# Altium schematic symbol library AltiumDesigner.SchLib: 2 symbols
Pins are listed as number, name and electrical type; pins without a type are passive.

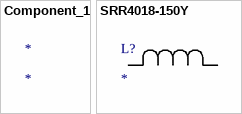
[diagram p0: symbols Component_1 to SRR4018-150Y]

## Component_1
designator *

## SRR4018-150Y
designator L?
Imported; Manufacturer_Part_Number: SRR4018-150Y; Vendor: Bourns Electronics; C: Copyright (C) 2015 Accelerated Designs. All rights reserved; Copyright: Copyright (C) 2015 Accelerated Designs. All rights reserved; Value: Value
footprint IND_BOURNS_SRR40
pins: 1, 2